# Altium footprint library misc.PcbLib: 17 footprints (part 2 of 2)
Each footprint in its own frame and in the unit in brackets; x right, y up, seen from the top. Pads: shape width x height; smd on the part's side, far side on the other; paste and mask are expansions set on the pad; w line width, h text height; cw(c..) or ccw(c..) is an arc to the next point about the centre after c.
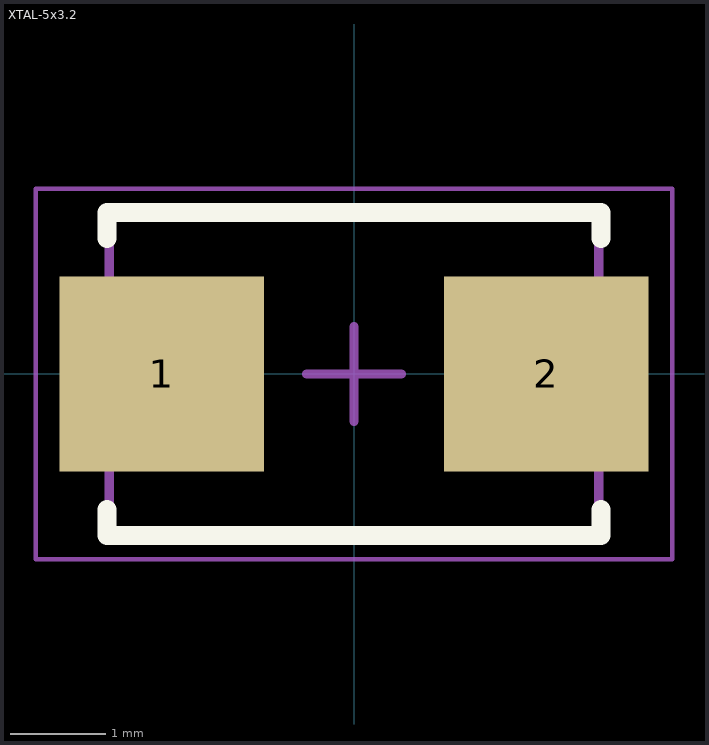
[diagram p1: the footprint, top view; thin cyan lines are the x and y axes]

## XTAL-5x3.2 [mm] "Molded Inductor, 2-Leads, Body 5,00x3,20mm, IPC Medium Density"
height 1.35
pads (2):
  rect 2.15x2.05 smd: 1(-2.025,0) 2(2.025,0)
Top Overlay:
  lines w0.2: -2.6,-1.425 -2.6,-1.7 2.6,-1.7 2.6,-1.425 ; -2.6,1.425 -2.6,1.7 2.6,1.7 2.6,1.425
Mechanical 13:
  lines w0.1: -2.575,-1.675 -2.575,1.675 2.575,1.675 2.575,-1.675 -2.575,-1.675
Mechanical 15:
  lines w0.05: -3.35,-1.95 -3.35,1.95 3.35,1.95 3.35,-1.95 -3.35,-1.95
  lines w0.1: -0.5,0 0.5,0 ; 0,-0.5 0,0.5
3D body: height 1.35, standoff 0, extent -2.575,-1.675 2.575,1.675